# EAGLE library part CS8900A (library Traficon)
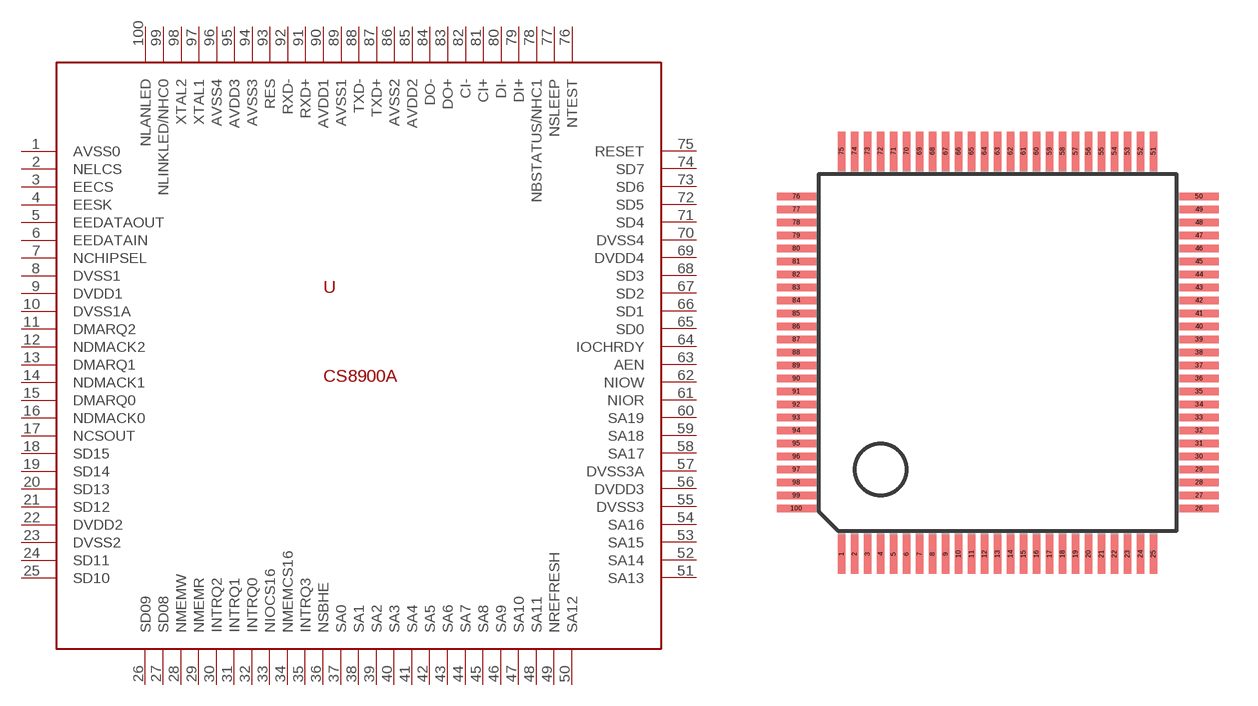
[diagram p128: symbol with the pads of TQFP100; footprint TQFP100]

Designator prefix U

## CS8900A  [TQFP100]
1  AVSS0
2  NELCS
3  EECS
4  EESK
5  EEDATAOUT
6  EEDATAIN
7  NCHIPSEL
8  DVSS1
9  DVDD1
10  DVSS1A
11  DMARQ2
12  NDMACK2
13  DMARQ1
14  NDMACK1
15  DMARQ0
16  NDMACK0
17  NCSOUT
18  SD15
19  SD14
20  SD13
21  SD12
22  DVDD2
23  DVSS2
24  SD11
25  SD10
26  SD09
27  SD08
28  NMEMW
29  NMEMR
30  INTRQ2
31  INTRQ1
32  INTRQ0
33  NIOCS16
34  NMEMCS16
35  INTRQ3
36  NSBHE
37  SA0
38  SA1
39  SA2
40  SA3
41  SA4
42  SA5
43  SA6
44  SA7
45  SA8
46  SA9
47  SA10
48  SA11
49  NREFRESH
50  SA12
51  SA13
52  SA14
53  SA15
54  SA16
55  DVSS3
56  DVDD3
57  DVSS3A
58  SA17
59  SA18
60  SA19
61  NIOR
62  NIOW
63  AEN
64  IOCHRDY
65  SD0
66  SD1
67  SD2
68  SD3
69  DVDD4
70  DVSS4
71  SD4
72  SD5
73  SD6
74  SD7
75  RESET
76  NTEST
77  NSLEEP
78  NBSTATUS/NHC1
79  DI+
80  DI-
81  CI+
82  CI-
83  DO+
84  DO-
85  AVDD2
86  AVSS2
87  TXD+
88  TXD-
89  AVSS1
90  AVDD1
91  RXD+
92  RXD-
93  RES
94  AVSS3
95  AVDD3
96  AVSS4
97  XTAL1
98  XTAL2
99  NLINKLED/NHC0
100  NLANLED

## Footprint TQFP100 (pad centres in mm)
Thin Quad Flat Pack
smd 0.27 x 1.5: 1 -6,-7.75; 2 -5.5,-7.75; 3 -5,-7.75; 4 -4.5,-7.75; 5 -4,-7.75; 6 -3.5,-7.75; 7 -3,-7.75; 8 -2.5,-7.75; 9 -2,-7.75; 10 -1.5,-7.75; 11 -1,-7.75; 12 -0.5,-7.75; 13 0,-7.75; 14 0.5,-7.75; 15 1,-7.75; 16 1.5,-7.75; 17 2,-7.75; 18 2.5,-7.75; 19 3,-7.75; 20 3.5,-7.75; 21 4,-7.75; 22 4.5,-7.75; 23 5,-7.75; 24 5.5,-7.75; 25 6,-7.75; 51 6,7.75; 52 5.5,7.75; 53 5,7.75; 54 4.5,7.75; 55 4,7.75; 56 3.5,7.75; 57 3,7.75; 58 2.5,7.75; 59 2,7.75; 60 1.5,7.75; 61 1,7.75; 62 0.5,7.75; 63 0,7.75; 64 -0.5,7.75; 65 -1,7.75; 66 -1.5,7.75; 67 -2,7.75; 68 -2.5,7.75; 69 -3,7.75; 70 -3.5,7.75; 71 -4,7.75; 72 -4.5,7.75; 73 -5,7.75; 74 -5.5,7.75; 75 -6,7.75
smd 1.5 x 0.27: 26 7.75,-6; 27 7.75,-5.5; 28 7.75,-5; 29 7.75,-4.5; 30 7.75,-4; 31 7.75,-3.5; 32 7.75,-3; 33 7.75,-2.5; 34 7.75,-2; 35 7.75,-1.5; 36 7.75,-1; 37 7.75,-0.5; 38 7.75,0; 39 7.75,0.5; 40 7.75,1; 41 7.75,1.5; 42 7.75,2; 43 7.75,2.5; 44 7.75,3; 45 7.75,3.5; 46 7.75,4; 47 7.75,4.5; 48 7.75,5; 49 7.75,5.5; 50 7.75,6; 76 -7.75,6; 77 -7.75,5.5; 78 -7.75,5; 79 -7.75,4.5; 80 -7.75,4; 81 -7.75,3.5; 82 -7.75,3; 83 -7.75,2.5; 84 -7.75,2; 85 -7.75,1.5; 86 -7.75,1; 87 -7.75,0.5; 88 -7.75,0; 89 -7.75,-0.5; 90 -7.75,-1; 91 -7.75,-1.5; 92 -7.75,-2; 93 -7.75,-2.5; 94 -7.75,-3; 95 -7.75,-3.5; 96 -7.75,-4; 97 -7.75,-4.5; 98 -7.75,-5; 99 -7.75,-5.5; 100 -7.75,-6